# EAGLE library part ORESAT-DEBUG-CONNECTOR (library oresat-debug-connector)
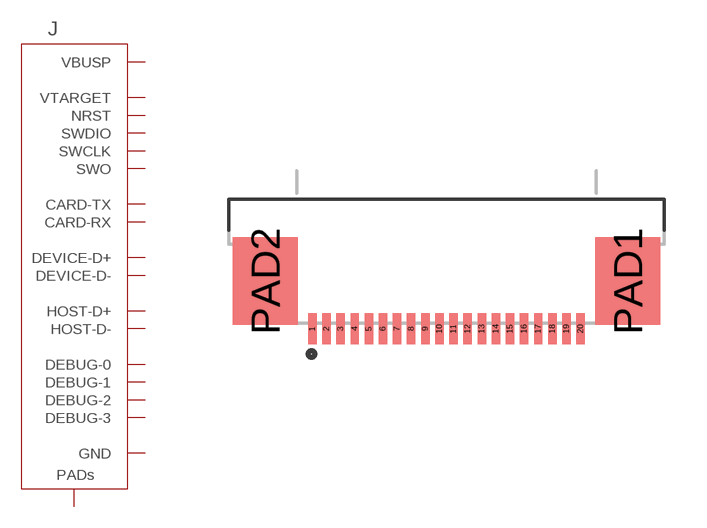
[diagram p0: symbol with the pads of TE_2-1734592-0; footprint TE_2-1734592-0]

Designator prefix J

## ORESAT-DEBUG-CONNECTOR-ALL (DPN: A100287CT-ND; MPN: 2-1734592-0)  [TE_2-1734592-0]
1  VBUSP  pas
2  VBUSP  pas
3  GND  pas
4  DEVICE-D+  pas
5  DEVICE-D-  pas
6  GND  pas
7  HOST-D+  pas
8  HOST-D-  pas
9  GND  pas
10  NRST  pas
11  VTARGET  pas
12  CARD-RX  pas
13  CARD-TX  pas
14  SWDIO  pas
15  SWCLK  pas
16  SWO  pas
17  DEBUG-0  pas
18  DEBUG-1  pas
19  DEBUG-2  pas
20  DEBUG-3  pas
PAD1  PAD
PAD2  PAD

## Footprint TE_2-1734592-0 (pad centres in mm)
smd 0.3 x 1.1: 1 -4.75,-1.7; 2 -4.25,-1.7; 3 -3.75,-1.7; 4 -3.25,-1.7; 5 -2.75,-1.7; 6 -2.25,-1.7; 7 -1.75,-1.7; 8 -1.25,-1.7; 9 -0.75,-1.7; 10 -0.25,-1.7; 11 0.25,-1.7; 12 0.75,-1.7; 13 1.25,-1.7; 14 1.75,-1.7; 15 2.25,-1.7; 16 2.75,-1.7; 17 3.25,-1.7; 18 3.75,-1.7; 19 4.25,-1.7; 20 4.75,-1.7
smd 2.3 x 3.1: PAD1 6.42,0; PAD2 -6.42,0